# Altium footprint library DC-044A.PcbLib: 1 footprints
Each footprint in its own frame and in the unit in brackets; x right, y up, seen from the top. Pads: shape width x height; smd on the part's side, far side on the other; paste and mask are expansions set on the pad; w line width, h text height; cw(c..) or ccw(c..) is an arc to the next point about the centre after c.
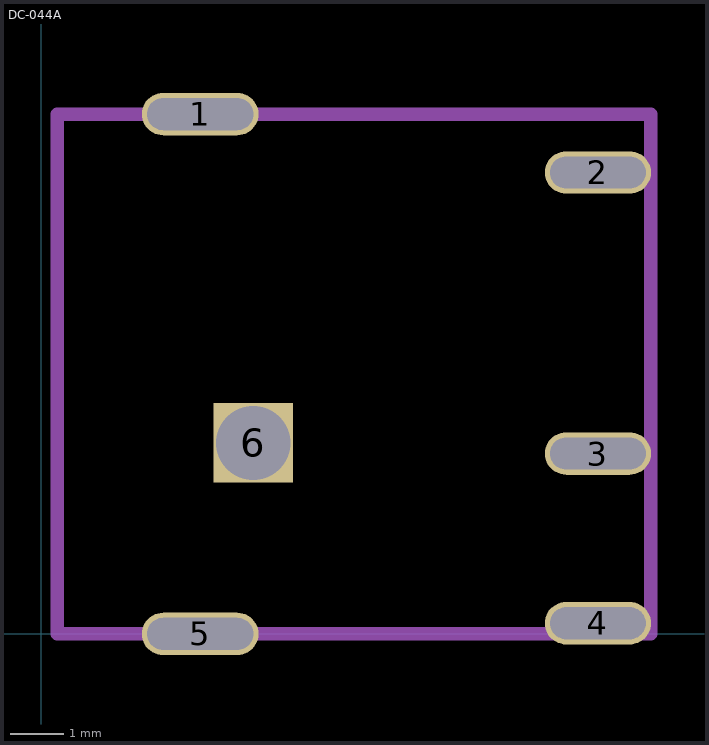
[diagram p0: the footprint, top view; thin cyan lines are the x and y axes]

## DC-044A [mm] "DC-044A"
pads (6):
  oval 2.2x0.8 hole 0.6 slot 2 at 0 deg: 1(3,9.8) 5(3,0)
  oval 2x0.8 hole 0.6 slot 1.8 at 0 deg: 2(10.5,8.7) 3(10.5,3.4) 4(10.5,0.2)
  rect 1.5x1.5 hole 1.4: 6(4,3.6)
Mechanical 1:
  lines w0.254: 0.3,0 11.5,0 11.5,9.8 10.5,9.8 0.3,9.8 0.3,0